# Altium integrated library Linear Technology Power Management Switching Regulator LTC1174-LTC3901.IntLib: 2647 symbols (part 106 of 364)
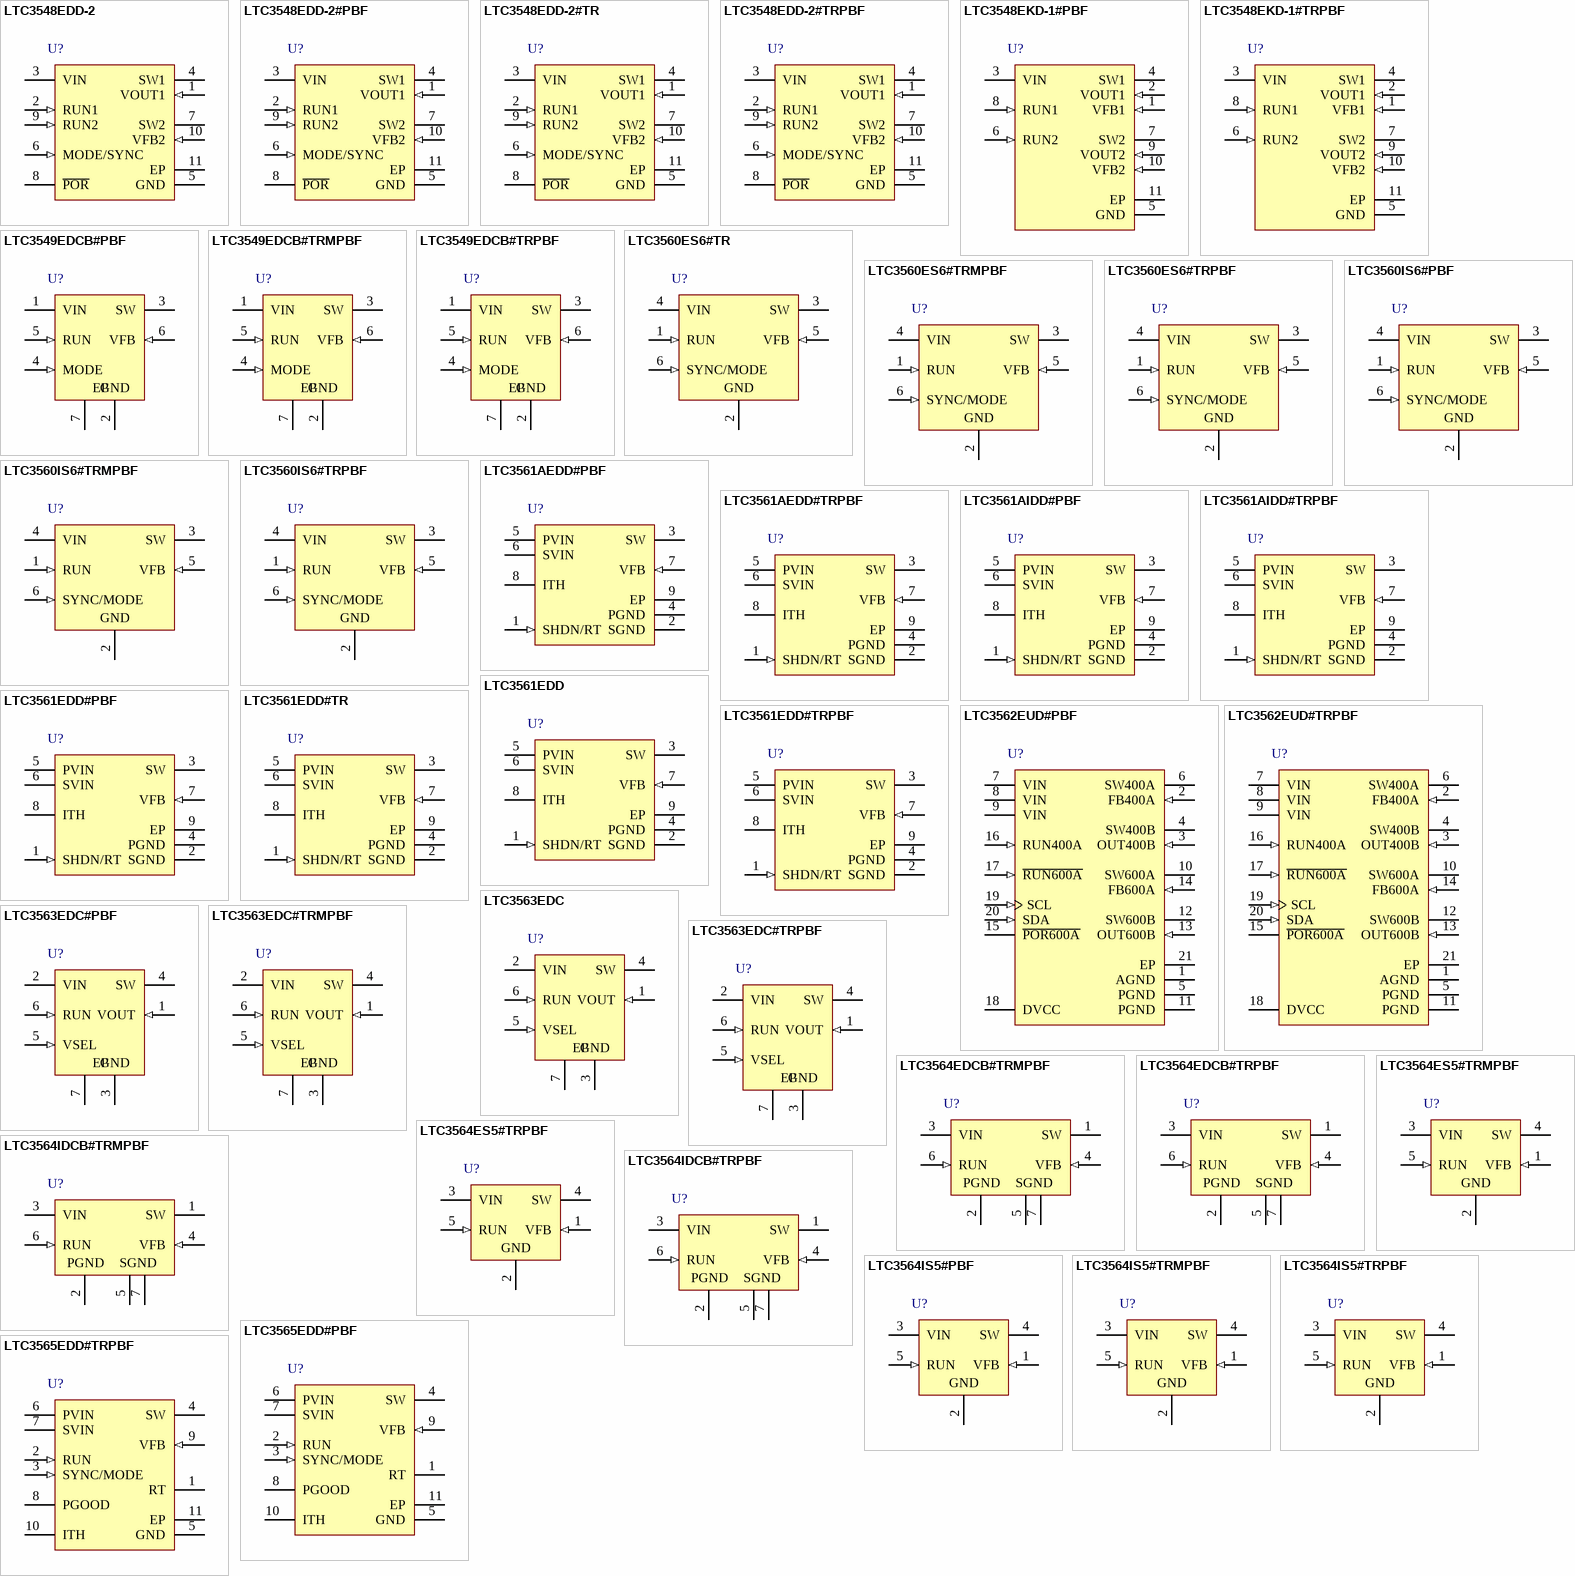
[diagram p169: symbols LTC3548EDD-2 to LTC3565EDD#TRPBF]

## LTC3561AIDD#PBF
designator U?
1 A, 4 MHz, Synchronous Step-Down DC/DC Converter, 8-pin SON (DD-8), -40 to 125 degC, Pb-Free; Manufacturer: Linear Technology; PartNumber: LTC3561AIDD#PBF; Frequency Adjust Range: 200kHz - 4MHz; Number of Outputs: 1; PackageVersion: Rev. C, 06/2009; PackageReference: DD8; PackageDescription: 8-Pin Plastic DFN, Body 3 x 3 mm, Pitch 0.5 mm; Supplier 1: Digi-Key; Supplier Part Number 1: LTC3561AIDD#PBF-ND; Supplier 2: Farnell; Supplier Part Number 2: 2295080; Supplier 3: Newark; Supplier Part Number 3: 02P9938; RoHS: TRUE; Mounting Technology: Surface Mount; Code_JEDEC: M0-229; ComponentLink1Description: Manufacturer URL; ComponentLink1URL: http://www.linear.com/; ComponentLink2Description: Datasheet; ComponentLink2URL: http://cds.linear.com/docs/en/datasheet/3561af.pdf; ComponentLink3Description: Package Specification; ComponentLink3URL: http://cds.linear.com/docs/en/packaging/DFN_8_05-08-1698.pdf
footprint LT-DD8_V (SON, 8-Leads, Body 3x3mm, Pitch 0.5mm, Thermal Pad 2.38x1.65mm)
pins: 1 SHDN/RT (in) "Combination Shutdown and Timing Resistor Pin. The oscillator frequency is programmed by connecting a resistor from this pin to ground. Forcing this pin to SVIN causes the device to be shut down. In shutdown all functions are (See Datasheet)", 2 SGND (power) "The Signal Ground Pin. All small signal components and compensation components should be connected to this ground (see Board Layout Considerations).", 3 SW (power) "The Switch Node Connection to the Inductor. This pin swings from PVIN to PGND.", 4 PGND (power) "Main Power Ground Pin. Connect to the (-) terminal of COUT, and (-) terminal of CIN.", 5 PVIN (power) "Main Supply Pin. Must be closely decoupled to PGND.", 6 SVIN (power) "The Signal Power Pin. All active circuitry is powered from this pin. Must be closely decoupled to SGND. SVIN must be greater than or equal to PVIN.", 7 VFB (in) "Receives the feedback voltage from the external resistive divider across the output. Nominal voltage for this pin is 0.8V.", 8 ITH "Error Amplifier Compensation Point. The current comparator threshold increases with this control voltage. Nominal voltage range for this pin is 0V to 1.5V.", 9 EP (power) "Thermal Connection to PCB. This pin should be soldered to ground to achieve rated thermal performance."

## LTC3561AIDD#TRPBF
designator U?
1 A, 4 MHz, Synchronous Step-Down DC/DC Converter, 8-pin SON (DD-8), -40 to 125 degC, Pb-Free, Tape and Reel; Manufacturer: Linear Technology; PartNumber: LTC3561AIDD#TRPBF; Frequency Adjust Range: 200kHz - 4MHz; Number of Outputs: 1; PackageVersion: Rev. C, 06/2009; PackageReference: DD8; PackageDescription: 8-Pin Plastic DFN, Body 3 x 3 mm, Pitch 0.5 mm; Supplier 1: Digi-Key; Supplier Part Number 1: LTC3561AIDD#TRPBF-ND; Packing: Tape and Reel; RoHS: TRUE; Mounting Technology: Surface Mount; Code_JEDEC: M0-229; ComponentLink1Description: Manufacturer URL; ComponentLink1URL: http://www.linear.com/; ComponentLink2Description: Datasheet; ComponentLink2URL: http://cds.linear.com/docs/en/datasheet/3561af.pdf; ComponentLink3Description: Package Specification; ComponentLink3URL: http://cds.linear.com/docs/en/packaging/DFN_8_05-08-1698.pdf
footprint LT-DD8_V (SON, 8-Leads, Body 3x3mm, Pitch 0.5mm, Thermal Pad 2.38x1.65mm)
pins: 1 SHDN/RT (in) "Combination Shutdown and Timing Resistor Pin. The oscillator frequency is programmed by connecting a resistor from this pin to ground. Forcing this pin to SVIN causes the device to be shut down. In shutdown all functions are (See Datasheet)", 2 SGND (power) "The Signal Ground Pin. All small signal components and compensation components should be connected to this ground (see Board Layout Considerations).", 3 SW (power) "The Switch Node Connection to the Inductor. This pin swings from PVIN to PGND.", 4 PGND (power) "Main Power Ground Pin. Connect to the (-) terminal of COUT, and (-) terminal of CIN.", 5 PVIN (power) "Main Supply Pin. Must be closely decoupled to PGND.", 6 SVIN (power) "The Signal Power Pin. All active circuitry is powered from this pin. Must be closely decoupled to SGND. SVIN must be greater than or equal to PVIN.", 7 VFB (in) "Receives the feedback voltage from the external resistive divider across the output. Nominal voltage for this pin is 0.8V.", 8 ITH "Error Amplifier Compensation Point. The current comparator threshold increases with this control voltage. Nominal voltage range for this pin is 0V to 1.5V.", 9 EP (power) "Thermal Connection to PCB. This pin should be soldered to ground to achieve rated thermal performance."

## LTC3561EDD
designator U?
1 A, 4 MHz, Synchronous Step-Down DC/DC Converter, 8-pin SON (DD-8), -40 to 85 degC; Manufacturer: Linear Technology; PartNumber: LTC3561EDD; Frequency Adjust Range: 850kHz - 4MHz; Number of Outputs: 1; PackageVersion: Rev. C, 06/2009; PackageReference: DD8; PackageDescription: 8-Pin Plastic DFN, Body 3 x 3 mm, Pitch 0.5 mm; Supplier 1: Newark; Supplier Part Number 1: 58M0800; RoHS: FALSE; Mounting Technology: Surface Mount; Code_JEDEC: M0-229; ComponentLink1Description: Manufacturer URL; ComponentLink1URL: http://www.linear.com/; ComponentLink2Description: Datasheet; ComponentLink2URL: http://cds.linear.com/docs/en/datasheet/3561f.pdf; ComponentLink3Description: Package Specification; ComponentLink3URL: http://cds.linear.com/docs/en/packaging/DFN_8_05-08-1698.pdf
footprint LT-DD8_V (SON, 8-Leads, Body 3x3mm, Pitch 0.5mm, Thermal Pad 2.38x1.65mm)
pins: 1 SHDN/RT (in) "Combination Shutdown and Timing Resistor Pin. The oscillator frequency is programmed by connecting a resistor from this pin to ground. Forcing this pin to SVIN causes the device to be shut down. In shutdown all functions are (See Datasheet)", 2 SGND (power) "The Signal Ground Pin. All small signal components and compensation components should be connected to this ground (see Board Layout Considerations).", 3 SW (power) "The Switch Node Connection to the Inductor. This pin swings from PVIN to PGND.", 4 PGND (power) "Main Power Ground Pin. Connect to the (-) terminal of COUT, and (-) terminal of CIN.", 5 PVIN (power) "Main Supply Pin. Must be closely decoupled to PGND.", 6 SVIN (power) "The Signal Power Pin. All active circuitry is powered from this pin. Must be closely decoupled to SGND. SVIN must be greater than or equal to PVIN.", 7 VFB (in) "Receives the feedback voltage from the external resistive divider across the output. Nominal voltage for this pin is 0.8V.", 8 ITH "Error Amplifier Compensation Point. The current comparator threshold increases with this control voltage. Nominal voltage range for this pin is 0V to 1.5V.", 9 EP (power) "Thermal Connection to PCB. This pin should be soldered to ground to achieve rated thermal performance."

## LTC3561EDD#PBF
designator U?
1 A, 4 MHz, Synchronous Step-Down DC/DC Converter, 8-pin SON (DD-8), -40 to 85 degC, Pb-Free; Manufacturer: Linear Technology; PartNumber: LTC3561EDD#PBF; Frequency Adjust Range: 850kHz - 4MHz; Number of Outputs: 1; PackageVersion: Rev. C, 06/2009; PackageReference: DD8; PackageDescription: 8-Pin Plastic DFN, Body 3 x 3 mm, Pitch 0.5 mm; Supplier 1: Digi-Key; Supplier Part Number 1: LTC3561EDD#PBF-ND; Supplier 2: Farnell; Supplier Part Number 2: 2295081; Supplier 3: Newark; Supplier Part Number 3: 58M0801; RoHS: TRUE; Mounting Technology: Surface Mount; Code_JEDEC: M0-229; ComponentLink1Description: Manufacturer URL; ComponentLink1URL: http://www.linear.com/; ComponentLink2Description: Datasheet; ComponentLink2URL: http://cds.linear.com/docs/en/datasheet/3561f.pdf; ComponentLink3Description: Package Specification; ComponentLink3URL: http://cds.linear.com/docs/en/packaging/DFN_8_05-08-1698.pdf
footprint LT-DD8_V (SON, 8-Leads, Body 3x3mm, Pitch 0.5mm, Thermal Pad 2.38x1.65mm)
pins: 1 SHDN/RT (in) "Combination Shutdown and Timing Resistor Pin. The oscillator frequency is programmed by connecting a resistor from this pin to ground. Forcing this pin to SVIN causes the device to be shut down. In shutdown all functions are (See Datasheet)", 2 SGND (power) "The Signal Ground Pin. All small signal components and compensation components should be connected to this ground (see Board Layout Considerations).", 3 SW (power) "The Switch Node Connection to the Inductor. This pin swings from PVIN to PGND.", 4 PGND (power) "Main Power Ground Pin. Connect to the (-) terminal of COUT, and (-) terminal of CIN.", 5 PVIN (power) "Main Supply Pin. Must be closely decoupled to PGND.", 6 SVIN (power) "The Signal Power Pin. All active circuitry is powered from this pin. Must be closely decoupled to SGND. SVIN must be greater than or equal to PVIN.", 7 VFB (in) "Receives the feedback voltage from the external resistive divider across the output. Nominal voltage for this pin is 0.8V.", 8 ITH "Error Amplifier Compensation Point. The current comparator threshold increases with this control voltage. Nominal voltage range for this pin is 0V to 1.5V.", 9 EP (power) "Thermal Connection to PCB. This pin should be soldered to ground to achieve rated thermal performance."

## LTC3561EDD#TR
designator U?
1 A, 4 MHz, Synchronous Step-Down DC/DC Converter, 8-pin SON (DD-8), -40 to 85 degC, Tape and Reel; Manufacturer: Linear Technology; PartNumber: LTC3561EDD#TR; Frequency Adjust Range: 850kHz - 4MHz; Number of Outputs: 1; PackageVersion: Rev. C, 06/2009; PackageReference: DD8; PackageDescription: 8-Pin Plastic DFN, Body 3 x 3 mm, Pitch 0.5 mm; Packing: Tape and Reel; RoHS: FALSE; Mounting Technology: Surface Mount; Code_JEDEC: M0-229; ComponentLink1Description: Manufacturer URL; ComponentLink1URL: http://www.linear.com/; ComponentLink2Description: Datasheet; ComponentLink2URL: http://cds.linear.com/docs/en/datasheet/3561f.pdf; ComponentLink3Description: Package Specification; ComponentLink3URL: http://cds.linear.com/docs/en/packaging/DFN_8_05-08-1698.pdf
footprint LT-DD8_V (SON, 8-Leads, Body 3x3mm, Pitch 0.5mm, Thermal Pad 2.38x1.65mm)
pins: 1 SHDN/RT (in) "Combination Shutdown and Timing Resistor Pin. The oscillator frequency is programmed by connecting a resistor from this pin to ground. Forcing this pin to SVIN causes the device to be shut down. In shutdown all functions are (See Datasheet)", 2 SGND (power) "The Signal Ground Pin. All small signal components and compensation components should be connected to this ground (see Board Layout Considerations).", 3 SW (power) "The Switch Node Connection to the Inductor. This pin swings from PVIN to PGND.", 4 PGND (power) "Main Power Ground Pin. Connect to the (-) terminal of COUT, and (-) terminal of CIN.", 5 PVIN (power) "Main Supply Pin. Must be closely decoupled to PGND.", 6 SVIN (power) "The Signal Power Pin. All active circuitry is powered from this pin. Must be closely decoupled to SGND. SVIN must be greater than or equal to PVIN.", 7 VFB (in) "Receives the feedback voltage from the external resistive divider across the output. Nominal voltage for this pin is 0.8V.", 8 ITH "Error Amplifier Compensation Point. The current comparator threshold increases with this control voltage. Nominal voltage range for this pin is 0V to 1.5V.", 9 EP (power) "Thermal Connection to PCB. This pin should be soldered to ground to achieve rated thermal performance."

## LTC3561EDD#TRPBF
designator U?
1 A, 4 MHz, Synchronous Step-Down DC/DC Converter, 8-pin SON (DD-8), -40 to 85 degC, Pb-Free, Tape and Reel; Manufacturer: Linear Technology; PartNumber: LTC3561EDD#TRPBF; Frequency Adjust Range: 850kHz - 4MHz; Number of Outputs: 1; PackageVersion: Rev. C, 06/2009; PackageReference: DD8; PackageDescription: 8-Pin Plastic DFN, Body 3 x 3 mm, Pitch 0.5 mm; Supplier 1: Digi-Key; Supplier Part Number 1: LTC3561EDD#TRPBF-ND; Supplier 2: Newark; Supplier Part Number 2: 58M0803; Packing: Tape and Reel; RoHS: TRUE; Mounting Technology: Surface Mount; Code_JEDEC: M0-229; ComponentLink1Description: Manufacturer URL; ComponentLink1URL: http://www.linear.com/; ComponentLink2Description: Datasheet; ComponentLink2URL: http://cds.linear.com/docs/en/datasheet/3561f.pdf; ComponentLink3Description: Package Specification; ComponentLink3URL: http://cds.linear.com/docs/en/packaging/DFN_8_05-08-1698.pdf
footprint LT-DD8_V (SON, 8-Leads, Body 3x3mm, Pitch 0.5mm, Thermal Pad 2.38x1.65mm)
pins: 1 SHDN/RT (in) "Combination Shutdown and Timing Resistor Pin. The oscillator frequency is programmed by connecting a resistor from this pin to ground. Forcing this pin to SVIN causes the device to be shut down. In shutdown all functions are (See Datasheet)", 2 SGND (power) "The Signal Ground Pin. All small signal components and compensation components should be connected to this ground (see Board Layout Considerations).", 3 SW (power) "The Switch Node Connection to the Inductor. This pin swings from PVIN to PGND.", 4 PGND (power) "Main Power Ground Pin. Connect to the (-) terminal of COUT, and (-) terminal of CIN.", 5 PVIN (power) "Main Supply Pin. Must be closely decoupled to PGND.", 6 SVIN (power) "The Signal Power Pin. All active circuitry is powered from this pin. Must be closely decoupled to SGND. SVIN must be greater than or equal to PVIN.", 7 VFB (in) "Receives the feedback voltage from the external resistive divider across the output. Nominal voltage for this pin is 0.8V.", 8 ITH "Error Amplifier Compensation Point. The current comparator threshold increases with this control voltage. Nominal voltage range for this pin is 0V to 1.5V.", 9 EP (power) "Thermal Connection to PCB. This pin should be soldered to ground to achieve rated thermal performance."

## LTC3562EUD#PBF
designator U?
I2C Quad Synchronous Step-Down DC/DC Regulator 2 x 600 mA, 2 x 400 mA, 20-pin QFN (UD-20), -40 to 85 degC, Pb-Free; Manufacturer: Linear Technology; PartNumber: LTC3562EUD#PBF; Number of Outputs: 4; DatasheetVersion: Rev. A; PackageVersion: Rev. A, 06/2010; PackageReference: UD-20; PackageDescription: 20-Pin Plastic QFN, Body 3 x 3 mm, Pitch 0.4 mm; Supplier 1: Digi-Key; Supplier Part Number 1: LTC3562EUD#PBF-ND; Supplier 2: Newark; Supplier Part Number 2: 56M8022; RoHS: TRUE; Mounting Technology: Surface Mount; ComponentLink1Description: Manufacturer URL; ComponentLink1URL: http://www.linear.com/; ComponentLink2Description: Datasheet; ComponentLink2URL: http://cds.linear.com/docs/en/datasheet/3562fa.pdf; ComponentLink3Description: Package Specification; ComponentLink3URL: http://cds.linear.com/docs/en/packaging/QFN_20_05-08-1720.pdf
footprint LT-UD-20_N (QFN, 20-Leads, Body 3.1x3.1mm, Pitch 0.4mm, Thermal Pad 1.65x1.65mm, IPC Medium Density)
footprint LT-UD-20_L (QFN, 20-Leads, Body 3.1x3.1mm, Pitch 0.4mm, Thermal Pad 1.65x1.65mm, IPC High Density)
footprint LT-UD-20_M (QFN, 20-Leads, Body 3.1x3.1mm, Pitch 0.4mm, Thermal Pad 1.65x1.65mm, IPC Low Density)
pins: 1 AGND (power) "Analog Ground Pin. All small-signal components should connect to this ground, which in turn connects to PGND at one point.", 2 FB400A (in) "Feedback Pin for R400A. When the control loop is complete, this pin servos to 1 of 16 possible set-points based on the programmed value from the I2C serial port (see Table 4).", 3 OUT400B (in) "Output Voltage Feedback Pin for R400B. An I2C programmable internal resistor divider divides the output voltage down for comparison to the internal reference voltage. This pin converges to 1 of 128 possible set-points based (See Datasheet)", 4 SW400B (power) "Switch Node Connection to the Inductor for R400B. This pin connects to the drains of the internal power MOSFET switches of R400B.", 5 PGND (power) "Power Ground Pin. Connect this pin closely to the (-) terminal of CIN.", 6 SW400A (power) "Switch Node Connection to the Inductor for R400A. This pin connects to the drains of the internal power MOSFET switches of R400A.", 7 VIN (power) "Input Supply Pin. This pin must be closely decoupled to GND with a 10uF or greater ceramic capacitor.", 8 VIN (power) "Input Supply Pin. This pin must be closely decoupled to GND with a 10uF or greater ceramic capacitor.", 9 VIN (power) "Input Supply Pin. This pin must be closely decoupled to GND with a 10uF or greater ceramic capacitor.", 10 SW600A (power) "Switch Node Connection to the Inductor for R600A. This pin connects to the drains of the internal power MOSFET switches of R600A.", 11 PGND (power) "Power Ground Pin. Connect this pin closely to the (-) terminal of CIN.", 12 SW600B (power) "Switch Node Connection to the Inductor for R600B. This pin connects to the drains of the internal power MOSFET switches of R600B.", 13 OUT600B (in) "Output Voltage Feedback Pin for R600B. An I2C programmable internal resistor divider divides the output voltage down for comparison to the internal reference voltage. This pin converges to 1 of 128 possible set-points based (See Datasheet)", 14 FB600A (in) "Feedback Pin for R600A. When the control loop is complete, this pin servos to 1 of 16 possible set-points based on the programmed value from the I2C serial port (see Table 4).", 15 ~{POR600A} (hiz) "Power-On Reset for R600A. This open drain output goes high impedance after a 230ms delay after the output of R600A reaches 92% of its regulation voltage. This output gets pulled to GND whenever R600A falls below 92% of its (See Datasheet)", 16 RUN400A (in) "Enable Pin for R400A, Active High. Apply a voltage greater than 1V to enable this regulator", 17 ~{RUN600A} (in) "Enable Pin for R600A, Active Low. Apply a voltage less than 0.3V to enable this regulator.", 18 DVCC (power) "Supply Voltage for I2C Lines. This pin sets the logic reference level of the LTC3562. A UVLO circuit on the DVCC pin forces all registers to a default setting whenever DVCC is < 1V. Bypass to GND with a 0.1uF capacitor.", 19 SCL (in) "I2C Clock Input. Serial data is shifted one bit per clock to control the LTC3562. The logic level for SCL is referenced to DVCC", 20 SDA (in) "I2C Data Input. The logic level for SDA is referenced to DVCC.", 21 EP (power) "Ground. Must be soldered to PCB ground for electrical contact and optimum thermal performance."

## LTC3562EUD#TRPBF
designator U?
I2C Quad Synchronous Step-Down DC/DC Regulator 2 x 600 mA, 2 x 400 mA, 20-pin QFN (UD-20), -40 to 85 degC, Pb-Free, Tape and Reel; Manufacturer: Linear Technology; PartNumber: LTC3562EUD#TRPBF; Number of Outputs: 4; DatasheetVersion: Rev. A; PackageVersion: Rev. A, 06/2010; PackageReference: UD-20; PackageDescription: 20-Pin Plastic QFN, Body 3 x 3 mm, Pitch 0.4 mm; Supplier 1: Digi-Key; Supplier Part Number 1: LTC3562EUD#TRPBF-ND; Packing: Tape and Reel; RoHS: TRUE; Mounting Technology: Surface Mount; ComponentLink1Description: Manufacturer URL; ComponentLink1URL: http://www.linear.com/; ComponentLink2Description: Datasheet; ComponentLink2URL: http://cds.linear.com/docs/en/datasheet/3562fa.pdf; ComponentLink3Description: Package Specification; ComponentLink3URL: http://cds.linear.com/docs/en/packaging/QFN_20_05-08-1720.pdf
footprint LT-UD-20_N (QFN, 20-Leads, Body 3.1x3.1mm, Pitch 0.4mm, Thermal Pad 1.65x1.65mm, IPC Medium Density)
footprint LT-UD-20_L (QFN, 20-Leads, Body 3.1x3.1mm, Pitch 0.4mm, Thermal Pad 1.65x1.65mm, IPC High Density)
footprint LT-UD-20_M (QFN, 20-Leads, Body 3.1x3.1mm, Pitch 0.4mm, Thermal Pad 1.65x1.65mm, IPC Low Density)
pins: 1 AGND (power) "Analog Ground Pin. All small-signal components should connect to this ground, which in turn connects to PGND at one point.", 2 FB400A (in) "Feedback Pin for R400A. When the control loop is complete, this pin servos to 1 of 16 possible set-points based on the programmed value from the I2C serial port (see Table 4).", 3 OUT400B (in) "Output Voltage Feedback Pin for R400B. An I2C programmable internal resistor divider divides the output voltage down for comparison to the internal reference voltage. This pin converges to 1 of 128 possible set-points based (See Datasheet)", 4 SW400B (power) "Switch Node Connection to the Inductor for R400B. This pin connects to the drains of the internal power MOSFET switches of R400B.", 5 PGND (power) "Power Ground Pin. Connect this pin closely to the (-) terminal of CIN.", 6 SW400A (power) "Switch Node Connection to the Inductor for R400A. This pin connects to the drains of the internal power MOSFET switches of R400A.", 7 VIN (power) "Input Supply Pin. This pin must be closely decoupled to GND with a 10uF or greater ceramic capacitor.", 8 VIN (power) "Input Supply Pin. This pin must be closely decoupled to GND with a 10uF or greater ceramic capacitor.", 9 VIN (power) "Input Supply Pin. This pin must be closely decoupled to GND with a 10uF or greater ceramic capacitor.", 10 SW600A (power) "Switch Node Connection to the Inductor for R600A. This pin connects to the drains of the internal power MOSFET switches of R600A.", 11 PGND (power) "Power Ground Pin. Connect this pin closely to the (-) terminal of CIN.", 12 SW600B (power) "Switch Node Connection to the Inductor for R600B. This pin connects to the drains of the internal power MOSFET switches of R600B.", 13 OUT600B (in) "Output Voltage Feedback Pin for R600B. An I2C programmable internal resistor divider divides the output voltage down for comparison to the internal reference voltage. This pin converges to 1 of 128 possible set-points based (See Datasheet)", 14 FB600A (in) "Feedback Pin for R600A. When the control loop is complete, this pin servos to 1 of 16 possible set-points based on the programmed value from the I2C serial port (see Table 4).", 15 ~{POR600A} (hiz) "Power-On Reset for R600A. This open drain output goes high impedance after a 230ms delay after the output of R600A reaches 92% of its regulation voltage. This output gets pulled to GND whenever R600A falls below 92% of its (See Datasheet)", 16 RUN400A (in) "Enable Pin for R400A, Active High. Apply a voltage greater than 1V to enable this regulator", 17 ~{RUN600A} (in) "Enable Pin for R600A, Active Low. Apply a voltage less than 0.3V to enable this regulator.", 18 DVCC (power) "Supply Voltage for I2C Lines. This pin sets the logic reference level of the LTC3562. A UVLO circuit on the DVCC pin forces all registers to a default setting whenever DVCC is < 1V. Bypass to GND with a 0.1uF capacitor.", 19 SCL (in) "I2C Clock Input. Serial data is shifted one bit per clock to control the LTC3562. The logic level for SCL is referenced to DVCC", 20 SDA (in) "I2C Data Input. The logic level for SDA is referenced to DVCC.", 21 EP (power) "Ground. Must be soldered to PCB ground for electrical contact and optimum thermal performance."

## LTC3563EDC
designator U?
500 mA, Synchronous Step-Down DC/DC Converter with Selectable Output Voltage, 6-pin SON (DC6-6), -40 to 85 degC; Manufacturer: Linear Technology; PartNumber: LTC3563EDC; Number of Outputs: 1; PackageVersion: Rev. B, 06/2010; PackageReference: DC6-6; PackageDescription: 6-Pin Plastic DFN, Body 2 x 2 mm, Pitch 0.5 mm; RoHS: FALSE; Mounting Technology: Surface Mount; Code_JEDEC: MO-229; ComponentLink1Description: Manufacturer URL; ComponentLink1URL: http://www.linear.com/; ComponentLink2Description: Datasheet; ComponentLink2URL: http://cds.linear.com/docs/en/datasheet/3563f.pdf; ComponentLink3Description: Package Specification; ComponentLink3URL: http://cds.linear.com/docs/en/packaging/DFN_6_05-08-1703.pdf
footprint LT-DC6-6_V (SON, 6-Leads, Body 2x2mm, Pitch 0.5mm, Thermal Pad 1.42x0.61mm)
pins: 1 VOUT (in) "Output Voltage Feedback. An internal resistive divider divides the output voltage down for comparison to the internal 0.6V reference voltage.", 2 VIN (power) "Power Supply Pin. Must be closely decoupled to GND.", 3 GND (power) "Ground Pin.", 4 SW (power) "Switch Node Connection to Inductor. This pin connects to the drains of the internal main and synchronous power MOSFET switches.", 5 VSEL (in) "Output Voltage Selection Pin. This pin controls the regulated output voltage. When tied to GND, VOUT is 1.28V. When floating or connecting this pin to VIN, VOUT becomes 1.87V.", 6 RUN (in) "Converter Enable Pin. Forcing this pin above 1.5V enables this part, while forcing it below 0.3V causes the device to shut down. In shutdown, all functions are disabled drawing <1uA supply current. This pin must be driven; (See Datasheet)", 7 EP (power) "GND. The Exposed Pad is ground. It must be soldered to PCB ground to provide both electrical contact and optimum thermal performance."

## LTC3563EDC#PBF
designator U?
500 mA, Synchronous Step-Down DC/DC Converter with Selectable Output Voltage, 6-pin SON (DC6-6), -40 to 85 degC, Pb-Free; Manufacturer: Linear Technology; PartNumber: LTC3563EDC#PBF; Number of Outputs: 1; PackageVersion: Rev. B, 06/2010; PackageReference: DC6-6; PackageDescription: 6-Pin Plastic DFN, Body 2 x 2 mm, Pitch 0.5 mm; RoHS: TRUE; Mounting Technology: Surface Mount; Code_JEDEC: MO-229; ComponentLink1Description: Manufacturer URL; ComponentLink1URL: http://www.linear.com/; ComponentLink2Description: Datasheet; ComponentLink2URL: http://cds.linear.com/docs/en/datasheet/3563f.pdf; ComponentLink3Description: Package Specification; ComponentLink3URL: http://cds.linear.com/docs/en/packaging/DFN_6_05-08-1703.pdf
footprint LT-DC6-6_V (SON, 6-Leads, Body 2x2mm, Pitch 0.5mm, Thermal Pad 1.42x0.61mm)
pins: 1 VOUT (in) "Output Voltage Feedback. An internal resistive divider divides the output voltage down for comparison to the internal 0.6V reference voltage.", 2 VIN (power) "Power Supply Pin. Must be closely decoupled to GND.", 3 GND (power) "Ground Pin.", 4 SW (power) "Switch Node Connection to Inductor. This pin connects to the drains of the internal main and synchronous power MOSFET switches.", 5 VSEL (in) "Output Voltage Selection Pin. This pin controls the regulated output voltage. When tied to GND, VOUT is 1.28V. When floating or connecting this pin to VIN, VOUT becomes 1.87V.", 6 RUN (in) "Converter Enable Pin. Forcing this pin above 1.5V enables this part, while forcing it below 0.3V causes the device to shut down. In shutdown, all functions are disabled drawing <1uA supply current. This pin must be driven; (See Datasheet)", 7 EP (power) "GND. The Exposed Pad is ground. It must be soldered to PCB ground to provide both electrical contact and optimum thermal performance."

## LTC3563EDC#TRMPBF
designator U?
500 mA, Synchronous Step-Down DC/DC Converter with Selectable Output Voltage, 6-pin SON (DC6-6), -40 to 85 degC, Pb-Free, Mini Tape and Reel; Manufacturer: Linear Technology; PartNumber: LTC3563EDC#TRMPBF; Number of Outputs: 1; PackageVersion: Rev. B, 06/2010; PackageReference: DC6-6; PackageDescription: 6-Pin Plastic DFN, Body 2 x 2 mm, Pitch 0.5 mm; Supplier 1: Digi-Key; Supplier Part Number 1: LTC3563EDC#TRMPBF-ND; Packing: Mini Tape and Reel; RoHS: TRUE; Mounting Technology: Surface Mount; Code_JEDEC: MO-229; ComponentLink1Description: Manufacturer URL; ComponentLink1URL: http://www.linear.com/; ComponentLink2Description: Datasheet; ComponentLink2URL: http://cds.linear.com/docs/en/datasheet/3563f.pdf; ComponentLink3Description: Package Specification; ComponentLink3URL: http://cds.linear.com/docs/en/packaging/DFN_6_05-08-1703.pdf
footprint LT-DC6-6_V (SON, 6-Leads, Body 2x2mm, Pitch 0.5mm, Thermal Pad 1.42x0.61mm)
pins: 1 VOUT (in) "Output Voltage Feedback. An internal resistive divider divides the output voltage down for comparison to the internal 0.6V reference voltage.", 2 VIN (power) "Power Supply Pin. Must be closely decoupled to GND.", 3 GND (power) "Ground Pin.", 4 SW (power) "Switch Node Connection to Inductor. This pin connects to the drains of the internal main and synchronous power MOSFET switches.", 5 VSEL (in) "Output Voltage Selection Pin. This pin controls the regulated output voltage. When tied to GND, VOUT is 1.28V. When floating or connecting this pin to VIN, VOUT becomes 1.87V.", 6 RUN (in) "Converter Enable Pin. Forcing this pin above 1.5V enables this part, while forcing it below 0.3V causes the device to shut down. In shutdown, all functions are disabled drawing <1uA supply current. This pin must be driven; (See Datasheet)", 7 EP (power) "GND. The Exposed Pad is ground. It must be soldered to PCB ground to provide both electrical contact and optimum thermal performance."

## LTC3563EDC#TRPBF
designator U?
500 mA, Synchronous Step-Down DC/DC Converter with Selectable Output Voltage, 6-pin SON (DC6-6), -40 to 85 degC, Pb-Free, Tape and Reel; Manufacturer: Linear Technology; PartNumber: LTC3563EDC#TRPBF; Number of Outputs: 1; PackageVersion: Rev. B, 06/2010; PackageReference: DC6-6; PackageDescription: 6-Pin Plastic DFN, Body 2 x 2 mm, Pitch 0.5 mm; Supplier 1: Digi-Key; Supplier Part Number 1: LTC3563EDC#TRPBF-ND; Packing: Tape and Reel; RoHS: TRUE; Mounting Technology: Surface Mount; Code_JEDEC: MO-229; ComponentLink1Description: Manufacturer URL; ComponentLink1URL: http://www.linear.com/; ComponentLink2Description: Datasheet; ComponentLink2URL: http://cds.linear.com/docs/en/datasheet/3563f.pdf; ComponentLink3Description: Package Specification; ComponentLink3URL: http://cds.linear.com/docs/en/packaging/DFN_6_05-08-1703.pdf
footprint LT-DC6-6_V (SON, 6-Leads, Body 2x2mm, Pitch 0.5mm, Thermal Pad 1.42x0.61mm)
pins: 1 VOUT (in) "Output Voltage Feedback. An internal resistive divider divides the output voltage down for comparison to the internal 0.6V reference voltage.", 2 VIN (power) "Power Supply Pin. Must be closely decoupled to GND.", 3 GND (power) "Ground Pin.", 4 SW (power) "Switch Node Connection to Inductor. This pin connects to the drains of the internal main and synchronous power MOSFET switches.", 5 VSEL (in) "Output Voltage Selection Pin. This pin controls the regulated output voltage. When tied to GND, VOUT is 1.28V. When floating or connecting this pin to VIN, VOUT becomes 1.87V.", 6 RUN (in) "Converter Enable Pin. Forcing this pin above 1.5V enables this part, while forcing it below 0.3V causes the device to shut down. In shutdown, all functions are disabled drawing <1uA supply current. This pin must be driven; (See Datasheet)", 7 EP (power) "GND. The Exposed Pad is ground. It must be soldered to PCB ground to provide both electrical contact and optimum thermal performance."

## LTC3564EDCB#TRMPBF
designator U?
2.25 MHz, 1.25 A Synchronous Step-Down Regulator, 6-pin SON (DCB-6), -40 to 125 degC, Pb-Free, Mini Tape and Reel; Manufacturer: Linear Technology; PartNumber: LTC3564EDCB#TRMPBF; Number of Outputs: 1; PackageVersion: Rev. A, 03/2011; PackageReference: DCB-6; PackageDescription: 6-Pin Plastic DFN, Body 2 x 3 mm, Pitch 0.5 mm; Supplier 1: Digi-Key; Supplier Part Number 1: LTC3564EDCB#TRMPBFTR-ND; Supplier 2: Digi-Key; Supplier Part Number 2: LTC3564EDCB#TRMPBFCT-ND; Supplier 3: Digi-Key; Supplier Part Number 3: LTC3564EDCB#TRMPBFDKR-ND; Supplier 4: Farnell; Supplier Part Number 4: 1715243; Supplier 5: Newark; Supplier Part Number 5: 15N5404; Packing: Mini Tape and Reel; RoHS: TRUE; Mounting Technology: Surface Mount; Code_JEDEC: MO-229; ComponentLink1Description: Manufacturer URL; ComponentLink1URL: http://www.linear.com/; ComponentLink2Description: Datasheet; ComponentLink2URL: http://cds.linear.com/docs/en/datasheet/3564f.pdf; ComponentLink3Description: Package Specification; ComponentLink3URL: http://www.linear.com/docs/en/packaging/(DCB6)%20DFN%2005-08-1715%20Rev%20A.pdf
footprint LT-DCB-6_V (SON, 6-Leads, Body 3x2mm, Pitch 0.5mm, Thermal Pad 1.65x1.35mm)
pins: 1 SW (power) "Switch Node Connection to Inductor. This pin connects to the drains of the internal main and synchronous power MOSFET switches.", 2 PGND (power) "Main Power Ground Pin. Connect to the (-) terminal of COUT, and (-) terminal of CIN.", 3 VIN (power) "Main Supply Pin. Must be closely decoupled to GND, Pin 2, with a 10uF or greater ceramic capacitor.", 4 VFB (in) "Feedback Pin. Receives the feedback voltage from an external resistive divider across the output.", 5 SGND (power) "The Signal Ground Pin. All small signal components and compensation components should be connected to this ground (see Board Layout Considerations.)", 6 RUN (in) "Run Control Input. Forcing this pin above 1.5V enables the part. Forcing this pin below 0.3V shuts down the device. In shutdown, all functions are disabled drawing <1uA supply current. Do not leave RUN floating.", 7 SGND (power) "The Signal Ground Pin. All small signal components and compensation components should be connected to this ground (see Board Layout Considerations.)"

## LTC3564EDCB#TRPBF
designator U?
2.25 MHz, 1.25 A Synchronous Step-Down Regulator, 6-pin SON (DCB-6), -40 to 125 degC, Pb-Free, Tape and Reel; Manufacturer: Linear Technology; PartNumber: LTC3564EDCB#TRPBF; Number of Outputs: 1; PackageVersion: Rev. A, 03/2011; PackageReference: DCB-6; PackageDescription: 6-Pin Plastic DFN, Body 2 x 3 mm, Pitch 0.5 mm; Supplier 1: Digi-Key; Supplier Part Number 1: LTC3564EDCB#TRPBF-ND; Supplier 2: Newark; Supplier Part Number 2: 15N5405; Packing: Tape and Reel; RoHS: TRUE; Mounting Technology: Surface Mount; Code_JEDEC: MO-229; ComponentLink1Description: Manufacturer URL; ComponentLink1URL: http://www.linear.com/; ComponentLink2Description: Datasheet; ComponentLink2URL: http://cds.linear.com/docs/en/datasheet/3564f.pdf; ComponentLink3Description: Package Specification; ComponentLink3URL: http://www.linear.com/docs/en/packaging/(DCB6)%20DFN%2005-08-1715%20Rev%20A.pdf
footprint LT-DCB-6_V (SON, 6-Leads, Body 3x2mm, Pitch 0.5mm, Thermal Pad 1.65x1.35mm)
pins: 1 SW (power) "Switch Node Connection to Inductor. This pin connects to the drains of the internal main and synchronous power MOSFET switches.", 2 PGND (power) "Main Power Ground Pin. Connect to the (-) terminal of COUT, and (-) terminal of CIN.", 3 VIN (power) "Main Supply Pin. Must be closely decoupled to GND, Pin 2, with a 10uF or greater ceramic capacitor.", 4 VFB (in) "Feedback Pin. Receives the feedback voltage from an external resistive divider across the output.", 5 SGND (power) "The Signal Ground Pin. All small signal components and compensation components should be connected to this ground (see Board Layout Considerations.)", 6 RUN (in) "Run Control Input. Forcing this pin above 1.5V enables the part. Forcing this pin below 0.3V shuts down the device. In shutdown, all functions are disabled drawing <1uA supply current. Do not leave RUN floating.", 7 SGND (power) "The Signal Ground Pin. All small signal components and compensation components should be connected to this ground (see Board Layout Considerations.)"

## LTC3564ES5#TRMPBF
designator U?
2.25 MHz, 1.25 A Synchronous Step-Down Regulator, 5-pin SOT23 (S5-5), -40 to 125 degC, Pb-Free, Mini Tape and Reel; Manufacturer: Linear Technology; PartNumber: LTC3564ES5#TRMPBF; Number of Outputs: 1; PackageVersion: Jun-10; PackageReference: S5-5; PackageDescription: 5-Pin Plastic TSOT-23, Body 1.63 x 2.90 mm, Pitch 0.95 mm; Supplier 1: Digi-Key; Supplier Part Number 1: LTC3564ES5#TRMPBFTR-ND; Supplier 2: Digi-Key; Supplier Part Number 2: LTC3564ES5#TRMPBFCT-ND; Supplier 3: Digi-Key; Supplier Part Number 3: LTC3564ES5#TRMPBFDKR-ND; Supplier 4: Newark; Supplier Part Number 4: 15N5406; Packing: Mini Tape and Reel; RoHS: TRUE; Mounting Technology: Surface Mount; Code_JEDEC: MO-193; ComponentLink1Description: Manufacturer URL; ComponentLink1URL: http://www.linear.com/; ComponentLink2Description: Datasheet; ComponentLink2URL: http://cds.linear.com/docs/en/datasheet/3564f.pdf; ComponentLink3Description: Package Specification; ComponentLink3URL: http://cds.linear.com/docs/en/packaging/SOT_5_05-08-1635.pdf
footprint LT-S5-5-TSOT-23_N (SOT23, 5-Leads, Body 2.90x1.63mm, Pitch 0.95mm, IPC Medium Density)
footprint LT-S5-5-TSOT-23_L (SOT23, 5-Leads, Body 2.90x1.63mm, Pitch 0.95mm, IPC High Density)
footprint LT-S5-5-TSOT-23_M (SOT23, 5-Leads, Body 2.90x1.63mm, Pitch 0.95mm, IPC Low Density)
pins: 1 VFB (in) "Feedback Pin. Receives the feedback voltage from an external resistive divider across the output.", 2 GND (power) "Ground Pin.", 3 VIN (power) "Main Supply Pin. Must be closely decoupled to GND, Pin 2, with a 10uF or greater ceramic capacitor.", 4 SW (power) "Switch Node Connection to Inductor. This pin connects to the drains of the internal main and synchronous power MOSFET switches.", 5 RUN (in) "Run Control Input. Forcing this pin above 1.5V enables the part. Forcing this pin below 0.3V shuts down the device. In shutdown, all functions are disabled drawing <1uA supply current. Do not leave RUN floating."

## LTC3564ES5#TRPBF
designator U?
2.25 MHz, 1.25 A Synchronous Step-Down Regulator, 5-pin SOT23 (S5-5), -40 to 125 degC, Pb-Free, Tape and Reel; Manufacturer: Linear Technology; PartNumber: LTC3564ES5#TRPBF; Number of Outputs: 1; Packing: Mini Tape and Reel; PackageVersion: Jun-10; PackageReference: S5-5; PackageDescription: 5-Pin Plastic TSOT-23, Body 1.63 x 2.90 mm, Pitch 0.95 mm; Supplier 1: Digi-Key; Supplier Part Number 1: LTC3564ES5#TRPBF-ND; Supplier 2: Newark; Supplier Part Number 2: 15N5407; RoHS: TRUE; Mounting Technology: Surface Mount; Code_JEDEC: MO-193; ComponentLink1Description: Manufacturer URL; ComponentLink1URL: http://www.linear.com/; ComponentLink2Description: Datasheet; ComponentLink2URL: http://cds.linear.com/docs/en/datasheet/3564f.pdf; ComponentLink3Description: Package Specification; ComponentLink3URL: http://cds.linear.com/docs/en/packaging/SOT_5_05-08-1635.pdf
footprint LT-S5-5-TSOT-23_N (SOT23, 5-Leads, Body 2.90x1.63mm, Pitch 0.95mm, IPC Medium Density)
footprint LT-S5-5-TSOT-23_L (SOT23, 5-Leads, Body 2.90x1.63mm, Pitch 0.95mm, IPC High Density)
footprint LT-S5-5-TSOT-23_M (SOT23, 5-Leads, Body 2.90x1.63mm, Pitch 0.95mm, IPC Low Density)
pins: 1 VFB (in) "Feedback Pin. Receives the feedback voltage from an external resistive divider across the output.", 2 GND (power) "Ground Pin.", 3 VIN (power) "Main Supply Pin. Must be closely decoupled to GND, Pin 2, with a 10uF or greater ceramic capacitor.", 4 SW (power) "Switch Node Connection to Inductor. This pin connects to the drains of the internal main and synchronous power MOSFET switches.", 5 RUN (in) "Run Control Input. Forcing this pin above 1.5V enables the part. Forcing this pin below 0.3V shuts down the device. In shutdown, all functions are disabled drawing <1uA supply current. Do not leave RUN floating."

## LTC3564IDCB#TRMPBF
designator U?
2.25 MHz, 1.25 A Synchronous Step-Down Regulator, 6-pin SON (DCB-6), -40 to 125 degC, Pb-Free, Mini Tape and Reel; Manufacturer: Linear Technology; PartNumber: LTC3564IDCB#TRMPBF; Number of Outputs: 1; PackageVersion: Rev. A, 03/2011; PackageReference: DCB-6; PackageDescription: 6-Pin Plastic DFN, Body 2 x 3 mm, Pitch 0.5 mm; Supplier 1: Digi-Key; Supplier Part Number 1: LTC3564IDCB#TRMPBF-ND; Supplier 2: Newark; Supplier Part Number 2: 15N5408; Packing: Mini Tape and Reel; RoHS: TRUE; Mounting Technology: Surface Mount; Code_JEDEC: MO-229; ComponentLink1Description: Manufacturer URL; ComponentLink1URL: http://www.linear.com/; ComponentLink2Description: Datasheet; ComponentLink2URL: http://cds.linear.com/docs/en/datasheet/3564f.pdf; ComponentLink3Description: Package Specification; ComponentLink3URL: http://www.linear.com/docs/en/packaging/(DCB6)%20DFN%2005-08-1715%20Rev%20A.pdf
footprint LT-DCB-6_V (SON, 6-Leads, Body 3x2mm, Pitch 0.5mm, Thermal Pad 1.65x1.35mm)
pins: 1 SW (power) "Switch Node Connection to Inductor. This pin connects to the drains of the internal main and synchronous power MOSFET switches.", 2 PGND (power) "Main Power Ground Pin. Connect to the (-) terminal of COUT, and (-) terminal of CIN.", 3 VIN (power) "Main Supply Pin. Must be closely decoupled to GND, Pin 2, with a 10uF or greater ceramic capacitor.", 4 VFB (in) "Feedback Pin. Receives the feedback voltage from an external resistive divider across the output.", 5 SGND (power) "The Signal Ground Pin. All small signal components and compensation components should be connected to this ground (see Board Layout Considerations.)", 6 RUN (in) "Run Control Input. Forcing this pin above 1.5V enables the part. Forcing this pin below 0.3V shuts down the device. In shutdown, all functions are disabled drawing <1uA supply current. Do not leave RUN floating.", 7 SGND (power) "The Signal Ground Pin. All small signal components and compensation components should be connected to this ground (see Board Layout Considerations.)"

## LTC3564IDCB#TRPBF
designator U?
2.25 MHz, 1.25 A Synchronous Step-Down Regulator, 6-pin SON (DCB-6), -40 to 125 degC, Pb-Free, Tape and Reel; Manufacturer: Linear Technology; PartNumber: LTC3564IDCB#TRPBF; Number of Outputs: 1; PackageVersion: Rev. A, 03/2011; PackageReference: DCB-6; PackageDescription: 6-Pin Plastic DFN, Body 2 x 3 mm, Pitch 0.5 mm; Supplier 1: Digi-Key; Supplier Part Number 1: LTC3564IDCB#TRPBF-ND; Supplier 2: Newark; Supplier Part Number 2: 15N5409; Packing: Tape and Reel; RoHS: TRUE; Mounting Technology: Surface Mount; Code_JEDEC: MO-229; ComponentLink1Description: Manufacturer URL; ComponentLink1URL: http://www.linear.com/; ComponentLink2Description: Datasheet; ComponentLink2URL: http://cds.linear.com/docs/en/datasheet/3564f.pdf; ComponentLink3Description: Package Specification; ComponentLink3URL: http://www.linear.com/docs/en/packaging/(DCB6)%20DFN%2005-08-1715%20Rev%20A.pdf
footprint LT-DCB-6_V (SON, 6-Leads, Body 3x2mm, Pitch 0.5mm, Thermal Pad 1.65x1.35mm)
pins: 1 SW (power) "Switch Node Connection to Inductor. This pin connects to the drains of the internal main and synchronous power MOSFET switches.", 2 PGND (power) "Main Power Ground Pin. Connect to the (-) terminal of COUT, and (-) terminal of CIN.", 3 VIN (power) "Main Supply Pin. Must be closely decoupled to GND, Pin 2, with a 10uF or greater ceramic capacitor.", 4 VFB (in) "Feedback Pin. Receives the feedback voltage from an external resistive divider across the output.", 5 SGND (power) "The Signal Ground Pin. All small signal components and compensation components should be connected to this ground (see Board Layout Considerations.)", 6 RUN (in) "Run Control Input. Forcing this pin above 1.5V enables the part. Forcing this pin below 0.3V shuts down the device. In shutdown, all functions are disabled drawing <1uA supply current. Do not leave RUN floating.", 7 SGND (power) "The Signal Ground Pin. All small signal components and compensation components should be connected to this ground (see Board Layout Considerations.)"

## LTC3564IS5#PBF
designator U?
2.25 MHz, 1.25 A Synchronous Step-Down Regulator, 5-pin SOT23 (S5-5), -40 to 125 degC, Pb-Free; Manufacturer: Linear Technology; PartNumber: LTC3564IS5#PBF; Number of Outputs: 1; PackageVersion: Jun-10; PackageReference: S5-5; PackageDescription: 5-Pin Plastic TSOT-23, Body 1.63 x 2.90 mm, Pitch 0.95 mm; Supplier 1: Newark; Supplier Part Number 1: 78T3221; RoHS: TRUE; Mounting Technology: Surface Mount; Code_JEDEC: MO-193; ComponentLink1Description: Manufacturer URL; ComponentLink1URL: http://www.linear.com/; ComponentLink2Description: Datasheet; ComponentLink2URL: http://cds.linear.com/docs/en/datasheet/3564f.pdf; ComponentLink3Description: Package Specification; ComponentLink3URL: http://cds.linear.com/docs/en/packaging/SOT_5_05-08-1635.pdf
footprint LT-S5-5-TSOT-23_N (SOT23, 5-Leads, Body 2.90x1.63mm, Pitch 0.95mm, IPC Medium Density)
footprint LT-S5-5-TSOT-23_L (SOT23, 5-Leads, Body 2.90x1.63mm, Pitch 0.95mm, IPC High Density)
footprint LT-S5-5-TSOT-23_M (SOT23, 5-Leads, Body 2.90x1.63mm, Pitch 0.95mm, IPC Low Density)
pins: 1 VFB (in) "Feedback Pin. Receives the feedback voltage from an external resistive divider across the output.", 2 GND (power) "Ground Pin.", 3 VIN (power) "Main Supply Pin. Must be closely decoupled to GND, Pin 2, with a 10uF or greater ceramic capacitor.", 4 SW (power) "Switch Node Connection to Inductor. This pin connects to the drains of the internal main and synchronous power MOSFET switches.", 5 RUN (in) "Run Control Input. Forcing this pin above 1.5V enables the part. Forcing this pin below 0.3V shuts down the device. In shutdown, all functions are disabled drawing <1uA supply current. Do not leave RUN floating."

## LTC3564IS5#TRMPBF
designator U?
2.25 MHz, 1.25 A Synchronous Step-Down Regulator, 5-pin SOT23 (S5-5), -40 to 125 degC, Pb-Free, Mini Tape and Reel; Manufacturer: Linear Technology; PartNumber: LTC3564IS5#TRMPBF; Number of Outputs: 1; PackageVersion: Jun-10; PackageReference: S5-5; PackageDescription: 5-Pin Plastic TSOT-23, Body 1.63 x 2.90 mm, Pitch 0.95 mm; Supplier 1: Digi-Key; Supplier Part Number 1: LTC3564IS5#TRMPBF-ND; Packing: Mini Tape and Reel; RoHS: TRUE; Mounting Technology: Surface Mount; Code_JEDEC: MO-193; ComponentLink1Description: Manufacturer URL; ComponentLink1URL: http://www.linear.com/; ComponentLink2Description: Datasheet; ComponentLink2URL: http://cds.linear.com/docs/en/datasheet/3564f.pdf; ComponentLink3Description: Package Specification; ComponentLink3URL: http://cds.linear.com/docs/en/packaging/SOT_5_05-08-1635.pdf
footprint LT-S5-5-TSOT-23_N (SOT23, 5-Leads, Body 2.90x1.63mm, Pitch 0.95mm, IPC Medium Density)
footprint LT-S5-5-TSOT-23_L (SOT23, 5-Leads, Body 2.90x1.63mm, Pitch 0.95mm, IPC High Density)
footprint LT-S5-5-TSOT-23_M (SOT23, 5-Leads, Body 2.90x1.63mm, Pitch 0.95mm, IPC Low Density)
pins: 1 VFB (in) "Feedback Pin. Receives the feedback voltage from an external resistive divider across the output.", 2 GND (power) "Ground Pin.", 3 VIN (power) "Main Supply Pin. Must be closely decoupled to GND, Pin 2, with a 10uF or greater ceramic capacitor.", 4 SW (power) "Switch Node Connection to Inductor. This pin connects to the drains of the internal main and synchronous power MOSFET switches.", 5 RUN (in) "Run Control Input. Forcing this pin above 1.5V enables the part. Forcing this pin below 0.3V shuts down the device. In shutdown, all functions are disabled drawing <1uA supply current. Do not leave RUN floating."

## LTC3564IS5#TRPBF
designator U?
2.25 MHz, 1.25 A Synchronous Step-Down Regulator, 5-pin SOT23 (S5-5), -40 to 125 degC, Pb-Free, Tape and Reel; Manufacturer: Linear Technology; PartNumber: LTC3564IS5#TRPBF; Number of Outputs: 1; PackageVersion: Jun-10; PackageReference: S5-5; PackageDescription: 5-Pin Plastic TSOT-23, Body 1.63 x 2.90 mm, Pitch 0.95 mm; Supplier 1: Digi-Key; Supplier Part Number 1: LTC3564IS5#TRPBF-ND; Packing: Tape and Reel; RoHS: TRUE; Mounting Technology: Surface Mount; Code_JEDEC: MO-193; ComponentLink1Description: Manufacturer URL; ComponentLink1URL: http://www.linear.com/; ComponentLink2Description: Datasheet; ComponentLink2URL: http://cds.linear.com/docs/en/datasheet/3564f.pdf; ComponentLink3Description: Package Specification; ComponentLink3URL: http://cds.linear.com/docs/en/packaging/SOT_5_05-08-1635.pdf
footprint LT-S5-5-TSOT-23_N (SOT23, 5-Leads, Body 2.90x1.63mm, Pitch 0.95mm, IPC Medium Density)
footprint LT-S5-5-TSOT-23_L (SOT23, 5-Leads, Body 2.90x1.63mm, Pitch 0.95mm, IPC High Density)
footprint LT-S5-5-TSOT-23_M (SOT23, 5-Leads, Body 2.90x1.63mm, Pitch 0.95mm, IPC Low Density)
pins: 1 VFB (in) "Feedback Pin. Receives the feedback voltage from an external resistive divider across the output.", 2 GND (power) "Ground Pin.", 3 VIN (power) "Main Supply Pin. Must be closely decoupled to GND, Pin 2, with a 10uF or greater ceramic capacitor.", 4 SW (power) "Switch Node Connection to Inductor. This pin connects to the drains of the internal main and synchronous power MOSFET switches.", 5 RUN (in) "Run Control Input. Forcing this pin above 1.5V enables the part. Forcing this pin below 0.3V shuts down the device. In shutdown, all functions are disabled drawing <1uA supply current. Do not leave RUN floating."